# Altium footprint library ADAQ4001BBCZ.PcbLib: 3 footprints
Each footprint in its own frame and in the unit in brackets; x right, y up, seen from the top. Pads: shape width x height; smd on the part's side, far side on the other; paste and mask are expansions set on the pad; w line width, h text height; cw(c..) or ccw(c..) is an arc to the next point about the centre after c.
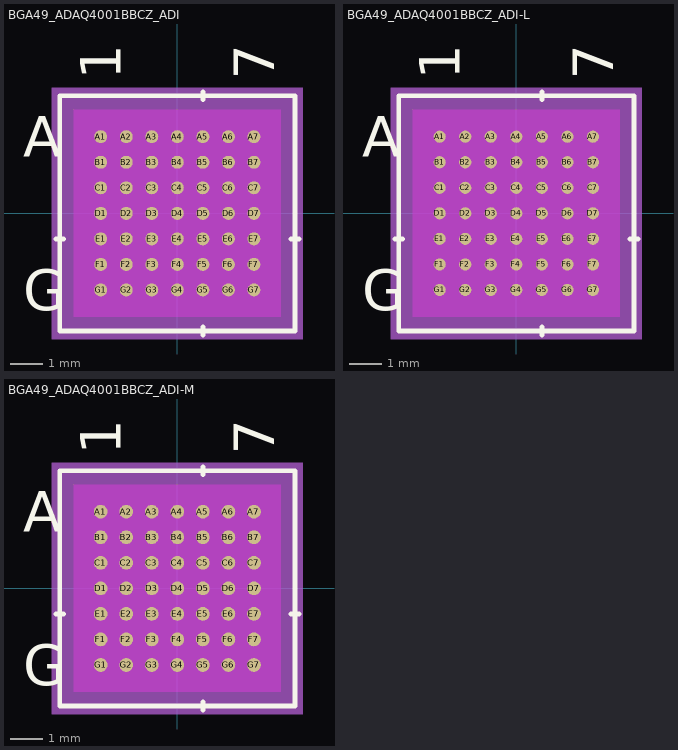
[diagram p0: the footprints below, top view; thin cyan lines are the x and y axes]

## BGA49_ADAQ4001BBCZ_ADI [mil]
pads (49):
  round 16 smd paste+0 mask+0: A1(-94.49,94.49) A2(-62.99,94.49) A3(-31.5,94.49) A4(0,94.49) A5(31.5,94.49) A6(62.99,94.49) A7(94.49,94.49) B1(-94.49,62.99) B2(-62.99,62.99) B3(-31.5,62.99) B4(0,62.99) B5(31.5,62.99) B6(62.99,62.99) B7(94.49,62.99) C1(-94.49,31.5) C2(-62.99,31.5) C3(-31.5,31.5) C4(0,31.5) C5(31.5,31.5) C6(62.99,31.5) C7(94.49,31.5) D1(-94.49,0) D2(-62.99,0) D3(-31.5,0) D4(0,0) D5(31.5,0) D6(62.99,0) D7(94.49,0) E1(-94.49,-31.5) E2(-62.99,-31.5) E3(-31.5,-31.5) E4(0,-31.5) E5(31.5,-31.5) E6(62.99,-31.5) E7(94.49,-31.5) F1(-94.49,-62.99) F2(-62.99,-62.99) F3(-31.5,-62.99) F4(0,-62.99) F5(31.5,-62.99) F6(62.99,-62.99) F7(94.49,-62.99) G1(-94.49,-94.49) G2(-62.99,-94.49) G3(-31.5,-94.49) G4(0,-94.49) G5(31.5,-94.49) G6(62.99,-94.49) G7(94.49,-94.49)
Top Overlay:
  lines w6: -150,-31.5 -140,-31.5 ; 31.5,-150 31.5,-140 ; 31.5,140 31.5,150 ; 140,-31.5 150,-31.5 ; -145,-145 -145,145 145,145 145,-145 -145,-145
  text "7" at 119.49,165 h50
  text "1" at -69.49,165 h50
  text "G" at -190,-119.49 h50
  text "A" at -190,69.49 h50
Bottom Overlay:
  text "7" at 69.49,165 h50
  text "1" at -119.49,165 h50
  text "G" at -165,-119.49 h50
  text "A" at -165,69.49 h50
Keep-Out Layer:
  region: -127.74,-127.74 -127.74,127.74 127.74,127.74 127.74,-127.74
Mechanical 5:
  region: 155,-155 -155,-155 -155,155 155,155
Mechanical 13:
  lines w1: -140,124.25 -124.25,140 ; -140,-140 -140,140 140,140 140,-140 -140,-140
  text "7" at 119.49,165 h50
  text "1" at -69.49,165 h50
  text "G" at -190,-119.49 h50
  text "A" at -190,69.49 h50
Mechanical 15:
  region: 150,-150 -150,-150 -150,150 150,150
  lines w6: -150,-150 150,-150 150,150 -150,150 -150,-150
3D body "BGA49_ADAQ4001BBCZ_ADI.step": height 96.1, standoff 0, extent -140,-140 140,140

## BGA49_ADAQ4001BBCZ_ADI-L [mil]
pads (49):
  round 15 smd paste+0 mask+0: A1(-94.49,94.49) A2(-62.99,94.49) A3(-31.5,94.49) A4(0,94.49) A5(31.5,94.49) A6(62.99,94.49) A7(94.49,94.49) B1(-94.49,62.99) B2(-62.99,62.99) B3(-31.5,62.99) B4(0,62.99) B5(31.5,62.99) B6(62.99,62.99) B7(94.49,62.99) C1(-94.49,31.5) C2(-62.99,31.5) C3(-31.5,31.5) C4(0,31.5) C5(31.5,31.5) C6(62.99,31.5) C7(94.49,31.5) D1(-94.49,0) D2(-62.99,0) D3(-31.5,0) D4(0,0) D5(31.5,0) D6(62.99,0) D7(94.49,0) E1(-94.49,-31.5) E2(-62.99,-31.5) E3(-31.5,-31.5) E4(0,-31.5) E5(31.5,-31.5) E6(62.99,-31.5) E7(94.49,-31.5) F1(-94.49,-62.99) F2(-62.99,-62.99) F3(-31.5,-62.99) F4(0,-62.99) F5(31.5,-62.99) F6(62.99,-62.99) F7(94.49,-62.99) G1(-94.49,-94.49) G2(-62.99,-94.49) G3(-31.5,-94.49) G4(0,-94.49) G5(31.5,-94.49) G6(62.99,-94.49) G7(94.49,-94.49)
Top Overlay:
  lines w6: -150,-31.5 -140,-31.5 ; 31.5,-150 31.5,-140 ; 31.5,140 31.5,150 ; 140,-31.5 150,-31.5 ; -145,-145 -145,145 145,145 145,-145 -145,-145
  text "7" at 119.49,165 h50
  text "1" at -69.49,165 h50
  text "G" at -190,-119.49 h50
  text "A" at -190,69.49 h50
Bottom Overlay:
  text "7" at 69.49,165 h50
  text "1" at -119.49,165 h50
  text "G" at -165,-119.49 h50
  text "A" at -165,69.49 h50
Keep-Out Layer:
  region: -127.74,-127.74 -127.74,127.74 127.74,127.74 127.74,-127.74
Mechanical 5:
  region: 155,-155 -155,-155 -155,155 155,155
Mechanical 13:
  lines w1: -140,124.25 -124.25,140 ; -140,-140 -140,140 140,140 140,-140 -140,-140
  text "7" at 119.49,165 h50
  text "1" at -69.49,165 h50
  text "G" at -190,-119.49 h50
  text "A" at -190,69.49 h50
Mechanical 15:
  region: 150,-150 -150,-150 -150,150 150,150
  lines w6: -150,-150 150,-150 150,150 -150,150 -150,-150
3D body "BGA49_ADAQ4001BBCZ_ADI.step": height 96.1, standoff 0, extent -140,-140 140,140

## BGA49_ADAQ4001BBCZ_ADI-M [mil]
pads (49):
  round 17 smd paste+0 mask+0: A1(-94.49,94.49) A2(-62.99,94.49) A3(-31.5,94.49) A4(0,94.49) A5(31.5,94.49) A6(62.99,94.49) A7(94.49,94.49) B1(-94.49,62.99) B2(-62.99,62.99) B3(-31.5,62.99) B4(0,62.99) B5(31.5,62.99) B6(62.99,62.99) B7(94.49,62.99) C1(-94.49,31.5) C2(-62.99,31.5) C3(-31.5,31.5) C4(0,31.5) C5(31.5,31.5) C6(62.99,31.5) C7(94.49,31.5) D1(-94.49,0) D2(-62.99,0) D3(-31.5,0) D4(0,0) D5(31.5,0) D6(62.99,0) D7(94.49,0) E1(-94.49,-31.5) E2(-62.99,-31.5) E3(-31.5,-31.5) E4(0,-31.5) E5(31.5,-31.5) E6(62.99,-31.5) E7(94.49,-31.5) F1(-94.49,-62.99) F2(-62.99,-62.99) F3(-31.5,-62.99) F4(0,-62.99) F5(31.5,-62.99) F6(62.99,-62.99) F7(94.49,-62.99) G1(-94.49,-94.49) G2(-62.99,-94.49) G3(-31.5,-94.49) G4(0,-94.49) G5(31.5,-94.49) G6(62.99,-94.49) G7(94.49,-94.49)
Top Overlay:
  lines w6: -150,-31.5 -140,-31.5 ; 31.5,-150 31.5,-140 ; 31.5,140 31.5,150 ; 140,-31.5 150,-31.5 ; -145,-145 -145,145 145,145 145,-145 -145,-145
  text "7" at 119.49,165 h50
  text "1" at -69.49,165 h50
  text "G" at -190,-119.49 h50
  text "A" at -190,69.49 h50
Bottom Overlay:
  text "7" at 69.49,165 h50
  text "1" at -119.49,165 h50
  text "G" at -165,-119.49 h50
  text "A" at -165,69.49 h50
Keep-Out Layer:
  region: -127.74,-127.74 -127.74,127.74 127.74,127.74 127.74,-127.74
Mechanical 5:
  region: 155,-155 -155,-155 -155,155 155,155
Mechanical 13:
  lines w1: -140,124.25 -124.25,140 ; -140,-140 -140,140 140,140 140,-140 -140,-140
  text "7" at 119.49,165 h50
  text "1" at -69.49,165 h50
  text "G" at -190,-119.49 h50
  text "A" at -190,69.49 h50
Mechanical 15:
  region: 150,-150 -150,-150 -150,150 150,150
  lines w6: -150,-150 150,-150 150,150 -150,150 -150,-150
3D body "BGA49_ADAQ4001BBCZ_ADI.step": height 96.1, standoff 0, extent -140,-140 140,140